# Altium footprint library 100uF_35V.PcbLib: 1 footprints
Each footprint in its own frame and in the unit in brackets; x right, y up, seen from the top. Pads: shape width x height; smd on the part's side, far side on the other; paste and mask are expansions set on the pad; w line width, h text height; cw(c..) or ccw(c..) is an arc to the next point about the centre after c.
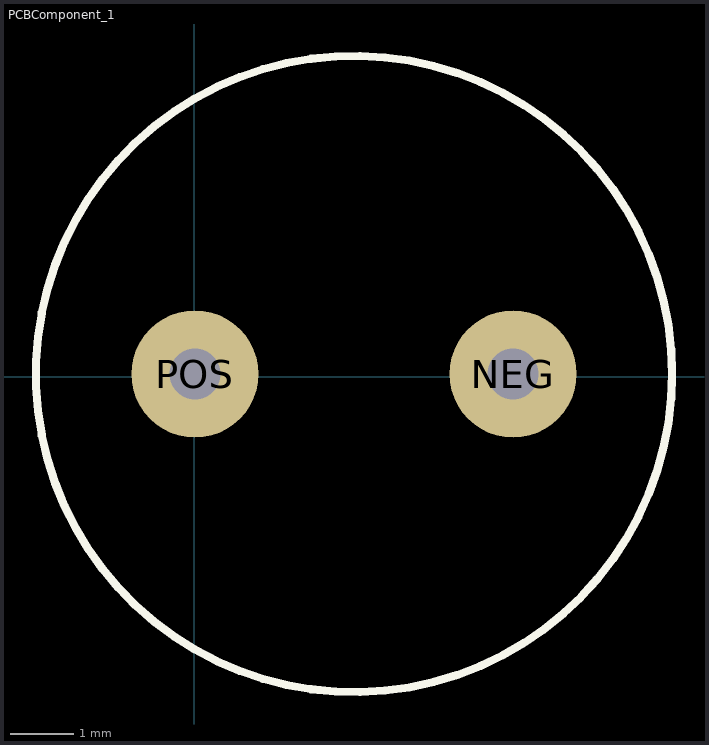
[diagram p0: the footprint, top view; thin cyan lines are the x and y axes]

## PCBComponent_1 [mm]
pads (2):
  round 2 hole 0.8: NEG(5.014,0.045) POS(0.014,0.045)
Top Layer:
  region: 5.535,0.234 5.248,0.547 4.825,0.566 4.512,0.279 4.493,-0.144 4.78,-0.457 5.203,-0.476 5.516,-0.189
Bottom Layer:
  region: 5.535,0.234 5.248,0.547 4.825,0.566 4.512,0.279 4.493,-0.144 4.78,-0.457 5.203,-0.476 5.516,-0.189
Top Overlay:
  circle w0.127: c2.514,0.045 r5
Multi-Layer:
  region: 5.535,0.234 5.248,0.547 4.825,0.566 4.512,0.279 4.493,-0.144 4.78,-0.457 5.203,-0.476 5.516,-0.189
3D body "User Library-Cap electro 10x16x5_0mm.STEP": height 16.53, standoff -3.74, extent -2.503,-4.989 7.547,5.062